# Altium footprint library Panasonic-F4S(0.4mm间距).PcbLib: 2 footprints
Each footprint in its own frame and in the unit in brackets; x right, y up, seen from the top. Pads: shape width x height; smd on the part's side, far side on the other; paste and mask are expansions set on the pad; w line width, h text height; cw(c..) or ccw(c..) is an arc to the next point about the centre after c.
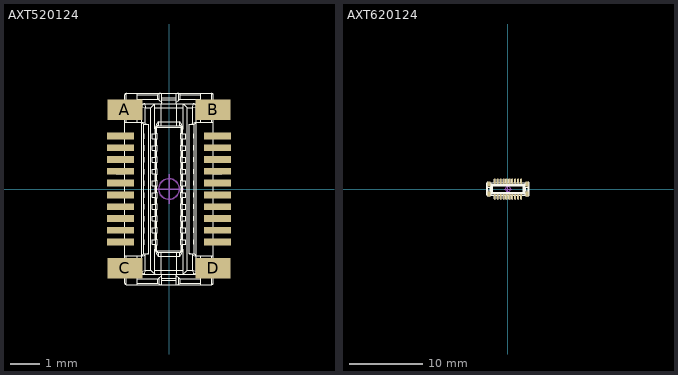
[diagram p0: the footprints below, top view; thin cyan lines are the x and y axes]

## AXT520124 [mm] "20-PIN 插座"
height 1
pads (24):
  rect 0.92x0.23 smd: 1(-1.65,1.8) 2(1.65,1.8) 3(-1.65,1.4) 4(1.65,1.4) 5(-1.65,1) 6(1.65,1) 7(-1.65,0.6) 8(1.65,0.6) 9(-1.65,0.2) 10(1.65,0.2) 11(-1.65,-0.2) 12(1.65,-0.2) 13(-1.65,-0.6) 14(1.65,-0.6) 15(-1.65,-1) 16(1.65,-1) 17(-1.65,-1.4) 18(1.65,-1.4) 19(-1.65,-1.8) 20(1.65,-1.8)
  rect 1.2x0.7 smd: A(-1.5,2.7) B(1.5,2.7) C(-1.5,-2.7) D(1.5,-2.7)
Top Overlay:
  drawing of 718 lines, arcs and shapes, not listed
Mechanical 15:
  circle w0.05: c0,0 r0.35
  lines w0.05: -0.5,0 0.5,0 ; 0,-0.5 0,0.5
3D body "axt520124.stp": height 0.97, standoff 0, extent -1.813,-3.26 1.787,3.24

## AXT620124 [mm] "20-PIN 插座"
height 1
pads (24):
  rect 0.23x0.75 smd: 1(-1.8,-1.07) 2(-1.8,1.07) 3(-1.4,-1.07) 4(-1.4,1.07) 5(-1,-1.07) 6(-1,1.07) 7(-0.6,-1.07) 8(-0.6,1.07) 9(-0.2,-1.07) 10(-0.2,1.07) 11(0.2,-1.07) 12(0.2,1.07) 13(0.6,-1.07) 14(0.6,1.07) 15(1,-1.07) 16(1,1.07) 17(1.4,-1.07) 18(1.4,1.07) 19(1.8,-1.07) 20(1.8,1.07)
  rect 0.45x0.65 smd: A(-2.6,-0.7) B(-2.6,0.7) C(2.6,-0.7) D(2.6,0.7)
Top Overlay:
  drawing of 316 lines, arcs and shapes, not listed
Mechanical 15:
  circle w0.05: c0,0 r0.35
  lines w0.05: -0.5,0 0.5,0 ; 0,-0.5 0,0.5
3D body "axt620124.stp": height 0.83, standoff 0, extent -2.9,-1.3 2.9,1.3